# Altium footprint library MOLEX_KK_TH_6PIN.PcbLib: 1 footprints
Each footprint in its own frame and in the unit in brackets; x right, y up, seen from the top. Pads: shape width x height; smd on the part's side, far side on the other; paste and mask are expansions set on the pad; w line width, h text height; cw(c..) or ccw(c..) is an arc to the next point about the centre after c.
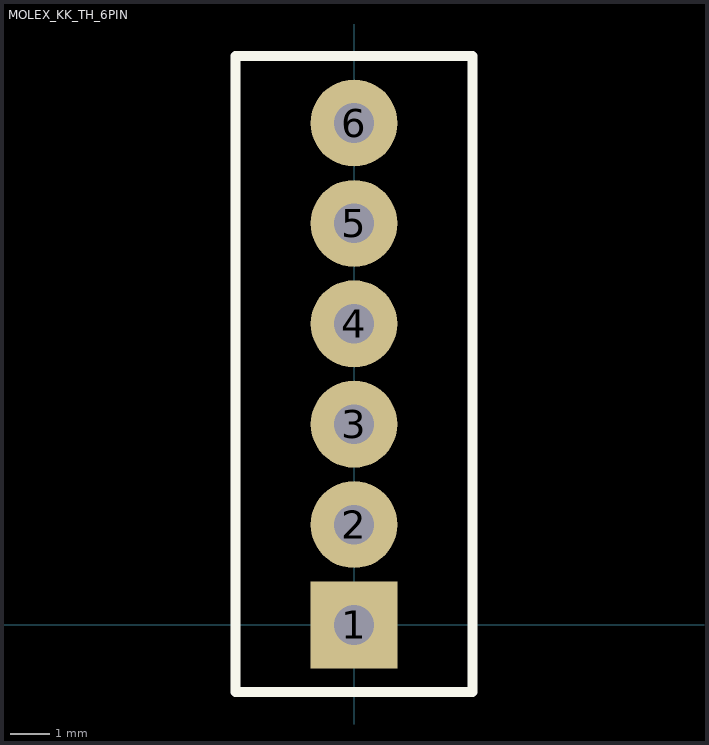
[diagram p0: the footprint, top view; thin cyan lines are the x and y axes]

## MOLEX_KK_TH_6PIN [mm]
pads (6):
  rect 2.2x2.2 hole 1: 1(0,0)
  round 2.2 hole 1: 2(0,2.54) 3(0,5.08) 4(0,7.62) 5(0,10.16) 6(0,12.7)
Top Overlay:
  lines w0.254: -3,-1.7 3,-1.7 3,14.4 -3,14.4 -3,-1.7